# Altium schematic symbol library STS40-BD1B-R3.SchLib: 1 symbol
Pins are listed as number, name and electrical type; pins without a type are passive.

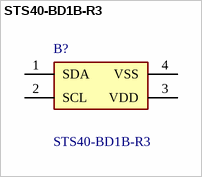
[diagram p0: symbol STS40-BD1B-R3]

## STS40-BD1B-R3
designator B?
Board Mount Temperature Sensors Base Accuracy Version, I2C Address 0x45; Manufacturer_Name: Sensirion; Geometry.Height: 0.65mm; Manufacturer_Part_Number: STS40-BD1B-R3; Arrow Part Number: STS40-BD1B-R3; Arrow Price/Stock: https://www.arrow.com/en/products/sts40-bd1b-r3/sensirion-ag?region=nac; Datasheet Link: https://sensirion.com/media/documents/D2D0B4A9/62CBE395/Sensirion_Datasheet_STS4x.pdf
footprint STS40BD1BR3
pins: 1 SDA, 2 SCL, 3 VDD, 4 VSS